# Altium schematic symbol library EC11E1534408.SchLib: 1 symbol
Pins are listed as number, name and electrical type; pins without a type are passive.

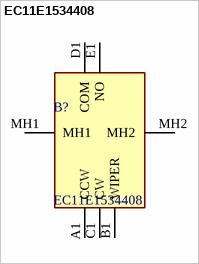
[diagram p0: symbol EC11E1534408]

## EC11E1534408
designator B?
Mechanical Encoder Rotary Incremental Flat 0.007N.m Straight Quadrature Digital Square Wave 15PPR Through Hole PC Pin Automotive; Manufacturer_Name: ALPS Electric; Geometry.Height: 24.5mm; Manufacturer_Part_Number: EC11E1534408; Mouser Part Number: 688-EC11E1534408; Mouser Price/Stock: https://www.mouser.co.uk/ProductDetail/Alps-Alpine/EC11E1534408?qs=PoKhxlfUXjJk5yy1jIb28A%3D%3D; Arrow Part Number: *; Arrow Price/Stock: *; Datasheet Link: https://datasheet.lcsc.com/szlcsc/ALPS-Electric-EC11E1534408_C278348.pdf
footprint EC11E1534408
pins: A1 CCW, B1 WIPER, C1 CW, D1 COM, E1 NO, MH1, MH2